# Altium footprint library DO.PcbLib: 13 footprints
Each footprint in its own frame and in the unit in brackets; x right, y up, seen from the top. Pads: shape width x height; smd on the part's side, far side on the other; paste and mask are expansions set on the pad; w line width, h text height; cw(c..) or ccw(c..) is an arc to the next point about the centre after c.
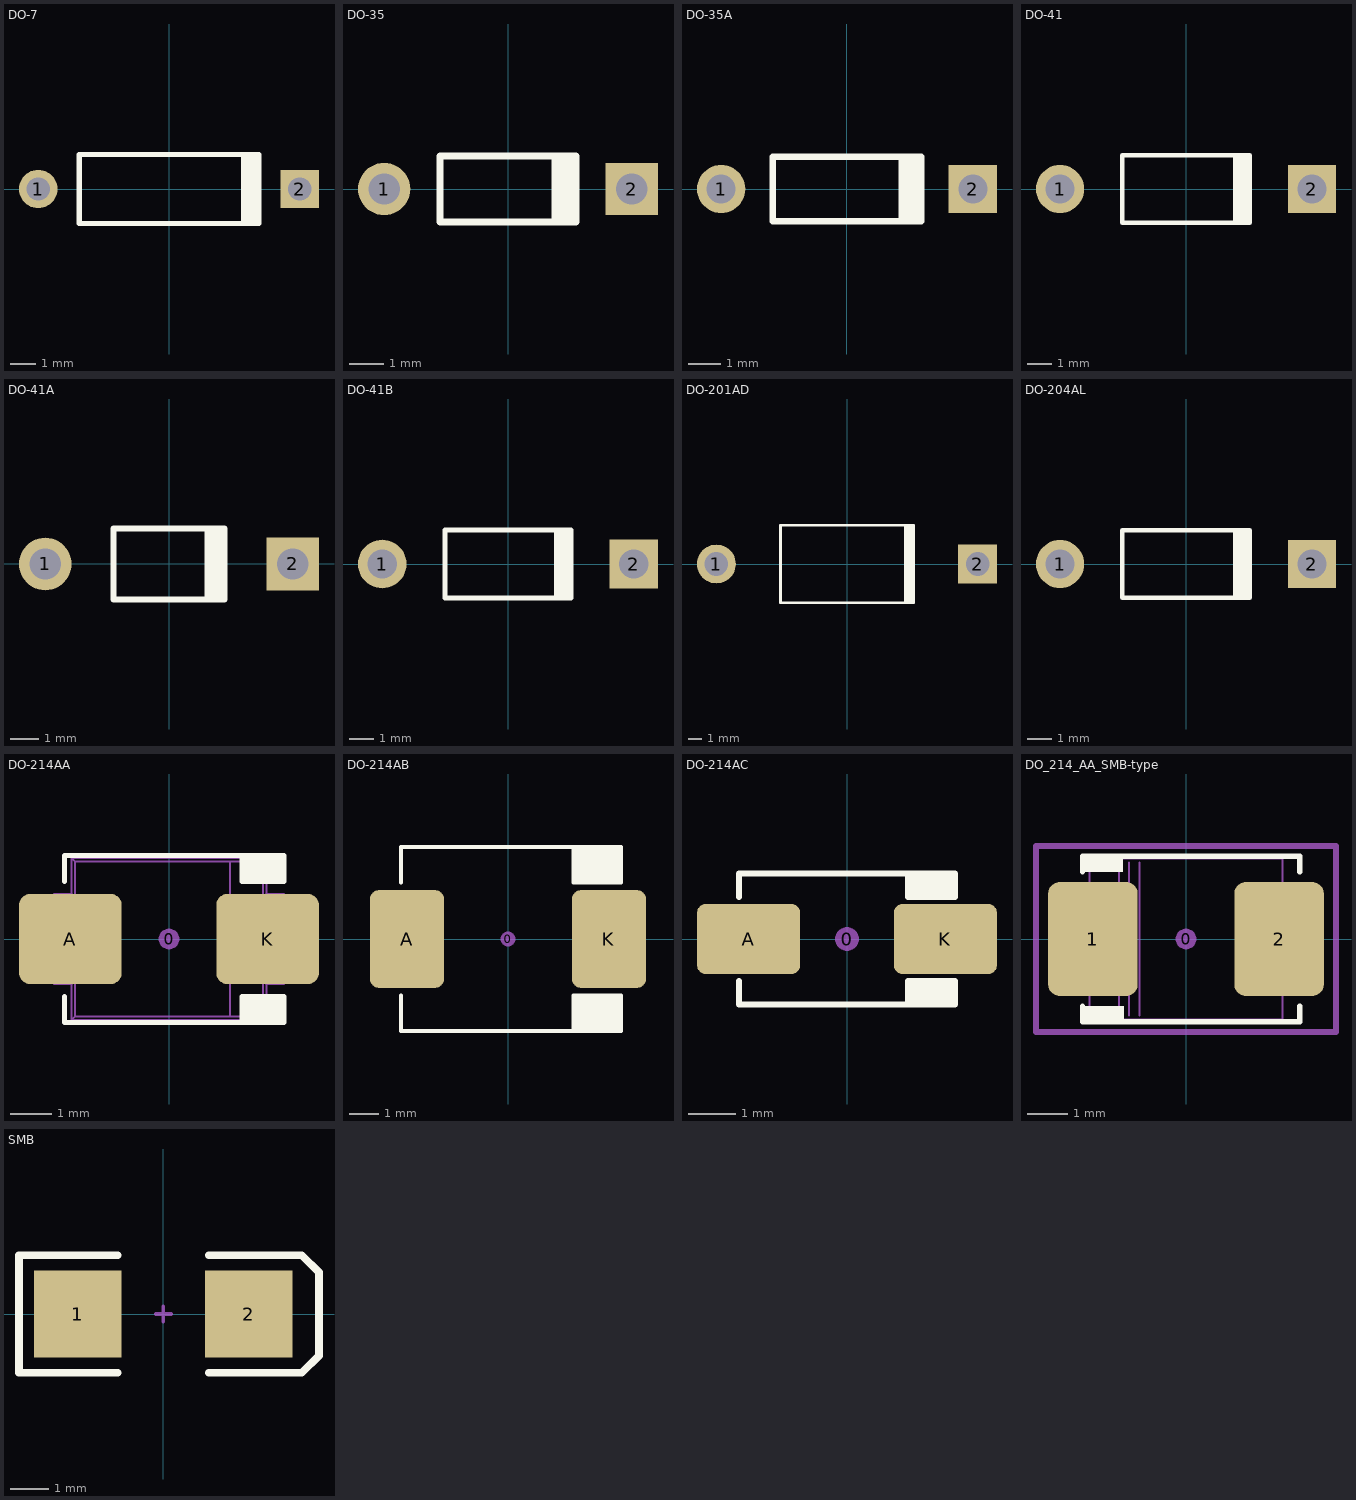
[diagram p0: the footprints below, top view; thin cyan lines are the x and y axes]

## DO-7 [mm] "Diode, Axial; Body 7 x 2.7 mm (LxDia. max), Lead Dia. 0.53 mm (max)"
height 2.7
pads (2):
  round 1.5 hole 0.9: 1(-5.1,0)
  rect 1.5x1.5 hole 0.9: 2(5.1,0)
Top Overlay:
  rectangle: 2.8,-1.35 3.6,1.35
  lines w0.2: 3.5,-1.35 -3.5,-1.35 -3.5,1.35 3.5,1.35

## DO-35 [mm] "Diode, Axial; Body 3.8 x 1.9 mm (LxDia. max), Lead Dia. 0.53 mm (max)"
height 1.9
pads (2):
  round 1.5 hole 0.9: 1(-3.55,0)
  rect 1.5x1.5 hole 0.9: 2(3.55,0)
Top Overlay:
  rectangle: 1.25,-0.95 2.05,0.95
  lines w0.2: 1.95,-0.95 -1.95,-0.95 -1.95,0.95 1.95,0.95

## DO-35A [mm] "Diode, Axial; Body 4.6 x 1.9 mm (LxDia. max), Lead Dia. 0.53 mm (max)"
height 2
pads (2):
  round 1.5 hole 0.9: 1(-3.9,0)
  rect 1.5x1.5 hole 0.9: 2(3.9,0)
Top Overlay:
  rectangle: 1.6,-1 2.4,1
  lines w0.2: 2.3,-1 -2.3,-1 -2.3,1 2.3,1

## DO-41 [mm] "Diode, Axial; Body 5.2 x 2.7 mm (LxDia. max), Lead Dia. 0.86 mm (max)"
height 2.8
pads (2):
  round 2 hole 1.2: 1(-5.23,0)
  rect 2x2 hole 1.2: 2(5.23,0)
Top Overlay:
  rectangle: 1.95,-1.4 2.75,1.4
  lines w0.2: 2.65,-1.4 -2.65,-1.4 -2.65,1.4 2.65,1.4

## DO-41A [mm] "Diode, Axial; Body 3.9 x 2.5 mm (LxDia. max), Lead Dia. 0.8 mm (max)"
height 2.5
pads (2):
  round 1.85 hole 1.1: 1(-4.35,0)
  rect 1.85x1.85 hole 1.1: 2(4.35,0)
Top Overlay:
  rectangle: 1.25,-1.25 2.05,1.25
  lines w0.2: 1.95,-1.25 -1.95,-1.25 -1.95,1.25 1.95,1.25

## DO-41B [mm] "Diode, Axial; Body 5.2 x 2.7 mm (LxDia. max), Lead Dia. 0.86 mm (max)"
height 2.7
pads (2):
  round 2 hole 1.2: 1(-5.18,0)
  rect 2x2 hole 1.2: 2(5.18,0)
Top Overlay:
  rectangle: 1.9,-1.4 2.7,1.4
  lines w0.2: 2.6,-1.4 -2.6,-1.4 -2.6,1.4 2.6,1.4

## DO-201AD [mm] "Diode, Axial; Body 9.5 x 5.6 mm (LxDia. max), Lead Dia. 1.32 mm (max)"
height 5.6
pads (2):
  round 2.8 hole 1.7: 1(-9.42,0)
  rect 2.8x2.8 hole 1.7: 2(9.42,0)
Top Overlay:
  rectangle: 4.1,-2.8 4.9,2.8
  lines w0.2: 4.8,-2.8 -4.8,-2.8 -4.8,2.8 4.8,2.8

## DO-204AL [mm] "Diode, Axial; Body 5.2 x 2.7 mm (LxDia. max), Lead Dia. 0.86 mm (max)"
height 2.7
pads (2):
  round 2 hole 1.2: 1(-5.23,0)
  rect 2x2 hole 1.2: 2(5.23,0)
Top Overlay:
  rectangle: 1.95,-1.4 2.75,1.4
  lines w0.2: 2.65,-1.4 -2.65,-1.4 -2.65,1.4 2.65,1.4

## DO-214AA [mm] "JEDEC DO214 variation AA. SMB"
height 2.65
pads (3):
  round 0.508 on Mech15: 0(0,0)
  rrect25% 2.5x2.2 smd: A(-2.4,0) K(2.4,0)
Top Overlay:
  region: 1.778,1.397 1.778,2.032 2.794,2.032 2.794,1.397
  region: 1.778,-1.397 1.778,-2.032 2.794,-2.032 2.794,-1.397
  lines w0.127: -2.54,-1.397 -2.54,-2.032 1.778,-2.032 ; -2.54,1.397 -2.54,2.032 1.778,2.032 ; 1.778,-2.032 1.778,-1.397 2.794,-1.397 2.794,-2.032 1.778,-2.032 ; 1.778,2.032 2.794,2.032 2.794,1.397 1.778,1.397 1.778,2.032
Mechanical 13:
  lines w0.05: -2.375,-1.1 -2.375,-1.973 ; -2.375,1.1 -2.375,1.973 ; 2.375,-1.1 2.375,-1.973 ; 2.375,1.1 2.375,1.973 ; -2.375,-1.973 -2.373,-1.975 2.373,-1.975 2.375,-1.973 ; -2.375,-1.973 -2.285,-1.883 ; -2.375,1.973 -2.373,1.975 2.373,1.975 2.375,1.973 ; -2.375,1.973 -2.285,1.883 ; -2.285,-1.883 1.485,-1.884 ; -2.285,-1.883 -2.285,1.883 ; -2.285,1.883 1.485,1.884 ; 1.485,-1.884 2.285,-1.884 ; 1.485,-1.884 1.485,1.884 ; 1.485,1.884 2.285,1.884 ; 2.285,-1.884 2.285,1.884 ; 2.285,-1.884 2.375,-1.973 ; 2.285,1.884 2.375,1.973 ; -2.8,-1.1 -2.356,-1.1 -2.356,1.1 -2.8,1.1 -2.8,-1.1 ; 2.356,-1.1 2.8,-1.1 2.8,1.1 2.356,1.1 2.356,-1.1
3D body "DO-214AA.STEP": height 2.62, standoff 0, extent -2.8,-1.975 2.8,1.975

## DO-214AB [mm] "JEDEC DO214 variation AB. SMC"
height 2.5
pads (3):
  round 0.508 on Mech15: 0(0,0)
  rrect25% 2.5x3.3 smd: A(-3.4,0) K(3.4,0)
Top Overlay:
  rectangle: 2.2,1.9 3.8,3.1
  rectangle: 2.2,-3.1 3.8,-1.9
  lines w0.127: -3.6,-1.9 -3.6,-3.1 3.8,-3.1 3.8,-1.9 2.2,-1.9 2.2,-3.1 ; -3.6,1.9 -3.6,3.1 3.8,3.1 3.8,1.9 2.2,1.9 2.2,3.1
3D body: height 2.62, standoff 0.01, extent -3.975,-2.975 4.05,2.975

## DO-214AC [mm] "JEDEC DO214 variation AC. SMA"
height 2.5
pads (3):
  round 0.508 on Mech15: 0(0,0)
  rrect25% 2.2x1.5 smd: A(-2.1,0) K(2.1,0)
Top Overlay:
  rectangle: 1.3,0.9 2.3,1.4
  rectangle: 1.3,-1.4 2.3,-0.9
  lines w0.127: -2.3,-0.9 -2.3,-1.4 2.3,-1.4 2.3,-0.9 1.3,-0.9 1.3,-1.4 ; -2.3,0.9 -2.3,1.4 2.3,1.4 2.3,0.9 1.3,0.9 ; 1.3,0.911 1.3,1.4
3D body "User Library-DIOM5528X26.step": height 2.6, standoff 0.03, extent -2.75,-1.4 2.75,1.4

## DO_214_AA_SMB-type [mm] "JEDEC DO214 variation AA. SMB"
height 2.65
pads (3):
  round 0.508 on Mech15: 0(0,0)
  rrect25% 2.2x2.8 smd: 1(-2.286,0) 2(2.286,0)
Top Overlay:
  region: -2.569,1.651 -2.569,2.017 -1.553,2.017 -1.553,1.651
  region: -2.54,-1.651 -2.54,-2.032 -1.524,-2.032 -1.524,-1.651
  lines w0.127: -2.54,-1.651 -2.54,-2.032 1.778,-2.032 2.794,-2.032 2.794,-1.651 ; -2.54,1.651 -2.54,2.032 1.778,2.032 2.794,2.032 2.794,1.651
Mechanical 13:
  lines w0.05: -2.375,-1.1 -2.375,-1.973 -2.373,-1.975 2.373,-1.975 2.375,-1.973 2.375,-1.1 ; -2.375,1.1 -2.375,1.973 -2.373,1.975 2.373,1.975 2.375,1.973 2.375,1.1 ; -1.651,-1.884 -1.651,1.884 ; -1.397,-1.884 -1.397,1.884 ; -1.143,-1.884 -1.143,1.884 ; -2.8,-1.1 -2.8,1.1 -2.356,1.1 -2.356,-1.1 -2.8,-1.1 ; 2.356,-1.1 2.8,-1.1 2.8,1.1 2.356,1.1 2.356,-1.1
Mechanical 15:
  lines w0.15: -3.683,-2.286 -3.683,2.286 3.683,2.286 3.683,-2.286 -3.683,-2.286
3D body "User Library-SMBJ33CAHE3.STEP": height 2.44, standoff -0.01, extent -2.795,-1.965 2.795,1.975

## SMB [mm] "DO-214-AA/SMB; 2 C-Bend Leads; Body 5.3 x 3.6 mm, inc. leads (LxW)"
height 2.54
pads (2):
  rect 2.3x2.3 smd: 1(-2.25,0) 2(2.25,0)
Top Overlay:
  lines w0.2: -1.2,-1.55 -3.8,-1.55 -3.8,1.55 -1.2,1.55 ; 1.2,-1.55 3.65,-1.55 4.1,-1.1 4.1,1.1 3.65,1.55 1.2,1.55
Mechanical 1:
  lines w0.1: -0.2,0 0.2,0 ; 0,-0.2 0,0.2